# Altium schematic symbol library WR-TBL_Rising Cage Clamp.SchLib: 433 symbols (part 3 of 8)
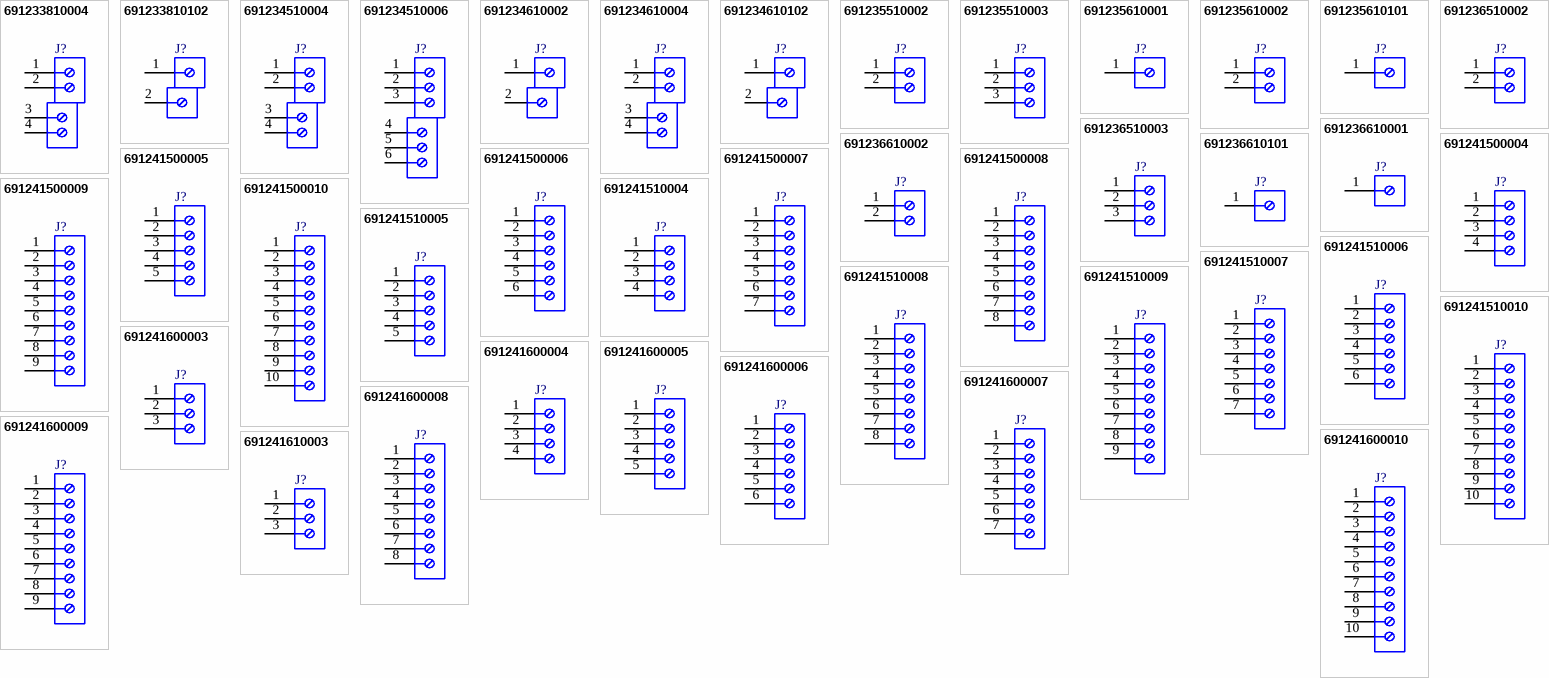
[diagram p12: symbols 691233810004 to 691241610003]

## 691234510006
designator J?  (value not drawn)
WR-TBL Series 2345 Double Level Horizontal Entry, THT, pitch 5.08mm, 06p; Manufacturer: Wurth Elektronik; Modularity: Yes; Rated Current: 20A; Wire Section: 12 to 30 (AWG) 3.31 to 0.05 (mm^2); Working Voltage: 300V (AC); Manufacturer Part Number: 691234510006; Product Series: WR-TBL; ComponentLink1Description: Website Link; ComponentLink1URL: https://www.we-online.com; ComponentLink2Description: Datasheet Link; ComponentLink2URL: https://www.we-online.com/components/products/datasheet/691234510006; Mount: Through Hole; Operating Temperature Min: -30degC; Operating Temperature Max: 120degC; Packaging: Box; Application: Rising Cage Clamp; Number of Pins: 6; Number of Rows: 2; Orientation: Double Level Horizontal; Lead Pitch: 5.08mm
footprint 691234510006
pins: 1, 2, 3, 4, 5, 6

## 691234610002
designator J?  (value not drawn)
WR-TBL Series 2346 Double Level Horizontal Entry, THT, pitch 10.16mm, 02p; Manufacturer: Wurth Elektronik; Modularity: Yes; Rated Current: 20A; Wire Section: 12 to 30 (AWG) 3.31 to 0.05 (mm^2); Working Voltage: 300V (AC); Manufacturer Part Number: 691234610002; Product Series: WR-TBL; ComponentLink1Description: Website Link; ComponentLink1URL: https://www.we-online.com; ComponentLink2Description: Datasheet Link; ComponentLink2URL: https://www.we-online.com/components/products/datasheet/691234610002; Mount: Through Hole; Operating Temperature Min: -30degC; Operating Temperature Max: 120degC; Packaging: Box; Application: Rising Cage Clamp; Number of Pins: 2; Number of Rows: 2; Orientation: Double Level Horizontal; Lead Pitch: 10.16mm
footprint 691234610002
pins: 1, 2

## 691234610004
designator J?  (value not drawn)
WR-TBL Series 2346 Double Level Horizontal Entry, THT, pitch 10.16mm, 04p; Manufacturer: Wurth Elektronik; Modularity: Yes; Rated Current: 20A; Wire Section: 12 to 30 (AWG) 3.31 to 0.05 (mm^2); Working Voltage: 300V (AC); Manufacturer Part Number: 691234610004; Product Series: WR-TBL; ComponentLink1Description: Website Link; ComponentLink1URL: https://www.we-online.com; ComponentLink2Description: Datasheet Link; ComponentLink2URL: https://www.we-online.com/components/products/datasheet/691234610004; Mount: Through Hole; Operating Temperature Min: -30degC; Operating Temperature Max: 120degC; Packaging: Box; Application: Rising Cage Clamp; Number of Pins: 4; Number of Rows: 2; Orientation: Double Level Horizontal; Lead Pitch: 10.16mm
footprint 691234610004
pins: 1, 2, 3, 4

## 691234610102
designator J?  (value not drawn)
WR-TBL Series 2346 Double Level Horizontal Entry, THT, pitch 10.16mm, 02p; Manufacturer: Wurth Elektronik; Modularity: Yes; Rated Current: 20A; Wire Section: 12 to 30 (AWG) 3.31 to 0.05 (mm^2); Working Voltage: 300V (AC); Manufacturer Part Number: 691234610102; Product Series: WR-TBL; ComponentLink1Description: Website Link; ComponentLink1URL: https://www.we-online.com; ComponentLink2Description: Datasheet Link; ComponentLink2URL: https://www.we-online.com/components/products/datasheet/691234610102; Mount: Through Hole; Operating Temperature Min: -30degC; Operating Temperature Max: 120degC; Packaging: Box; Application: Rising Cage Clamp; Number of Pins: 2; Number of Rows: 2; Orientation: Double Level Horizontal; Lead Pitch: 10.16mm
footprint 691234610102
pins: 1, 2

## 691235510002
designator J?  (value not drawn)
WR-TBL Series 2355 Horizontal Entry, THT, pitch 5.08mm, 02p; Manufacturer: Wurth Elektronik; Modularity: Yes; Rated Current: 20A; Wire Section: 12 to 30 (AWG) 3.31 to 0.05 (mm^2); Working Voltage: 300V (AC); Manufacturer Part Number: 691235510002; Product Series: WR-TBL; ComponentLink1Description: Website Link; ComponentLink1URL: https://www.we-online.com; ComponentLink2Description: Datasheet Link; ComponentLink2URL: https://www.we-online.com/components/products/datasheet/691235510002; Mount: Through Hole; Operating Temperature Min: -30degC; Operating Temperature Max: 120degC; Packaging: Box; Application: Rising Cage Clamp; Number of Pins: 2; Number of Rows: 1; Orientation: Horizontal; Lead Pitch: 5.08mm
footprint 691235510002
pins: 1, 2

## 691235510003
designator J?  (value not drawn)
WR-TBL Series 2355 Horizontal Entry, THT, pitch 5.08mm, 03p; Manufacturer: Wurth Elektronik; Modularity: Yes; Rated Current: 20A; Wire Section: 12 to 30 (AWG) 3.31 to 0.05 (mm^2); Working Voltage: 300V (AC); Manufacturer Part Number: 691235510003; Product Series: WR-TBL; ComponentLink1Description: Website Link; ComponentLink1URL: https://www.we-online.com; ComponentLink2Description: Datasheet Link; ComponentLink2URL: https://www.we-online.com/components/products/datasheet/691235510003; Mount: Through Hole; Operating Temperature Min: -30degC; Operating Temperature Max: 120degC; Packaging: Box; Application: Rising Cage Clamp; Number of Pins: 3; Number of Rows: 1; Orientation: Horizontal; Lead Pitch: 5.08mm
footprint 691235510003
pins: 1, 2, 3

## 691235610001
designator J?  (value not drawn)
WR-TBL Series 2356 Horizontal Entry, THT, pitch 10.16mm, 01p; Manufacturer: Wurth Elektronik; Modularity: Yes; Rated Current: 20A; Wire Section: 12 to 30 (AWG) 3.31 to 0.05 (mm^2); Working Voltage: 300V (AC); Manufacturer Part Number: 691235610001; Product Series: WR-TBL; ComponentLink1Description: Website Link; ComponentLink1URL: https://www.we-online.com; ComponentLink2Description: Datasheet Link; ComponentLink2URL: https://www.we-online.com/components/products/datasheet/691235610001; Mount: Through Hole; Operating Temperature Min: -30degC; Operating Temperature Max: 120degC; Packaging: Box; Application: Rising Cage Clamp; Number of Pins: 1; Number of Rows: 1; Orientation: Horizontal; Lead Pitch: 10.16mm
footprint 691235610001
pins: 1

## 691235610002
designator J?  (value not drawn)
WR-TBL Series 2356 Horizontal Entry, THT, pitch 10.16mm, 02p; Manufacturer: Wurth Elektronik; Modularity: Yes; Rated Current: 20A; Wire Section: 12 to 30 (AWG) 3.31 to 0.05 (mm^2); Working Voltage: 300V (AC); Manufacturer Part Number: 691235610002; Product Series: WR-TBL; ComponentLink1Description: Website Link; ComponentLink1URL: https://www.we-online.com; ComponentLink2Description: Datasheet Link; ComponentLink2URL: https://www.we-online.com/components/products/datasheet/691235610002; Mount: Through Hole; Operating Temperature Min: -30degC; Operating Temperature Max: 120degC; Packaging: Box; Application: Rising Cage Clamp; Number of Pins: 2; Number of Rows: 1; Orientation: Horizontal; Lead Pitch: 10.16mm
footprint 691235610002
pins: 1, 2

## 691235610101
designator J?  (value not drawn)
WR-TBL Series 2356 Horizontal Entry, THT, pitch 10.16mm, 01p; Manufacturer: Wurth Elektronik; Modularity: Yes; Rated Current: 20A; Wire Section: 12 to 30 (AWG) 3.31 to 0.05 (mm^2); Working Voltage: 300V (AC); Manufacturer Part Number: 691235610101; Product Series: WR-TBL; ComponentLink1Description: Website Link; ComponentLink1URL: https://www.we-online.com; ComponentLink2Description: Datasheet Link; ComponentLink2URL: https://www.we-online.com/components/products/datasheet/691235610101; Mount: Through Hole; Operating Temperature Min: -30degC; Operating Temperature Max: 120degC; Packaging: Box; Application: Rising Cage Clamp; Number of Pins: 1; Number of Rows: 1; Orientation: Horizontal; Lead Pitch: 10.16mm
footprint 691235610101
pins: 1

## 691236510002
designator J?  (value not drawn)
WR-TBL Series 2365 Horizontal Entry, THT, pitch 5.08mm, 02p; Manufacturer: Wurth Elektronik; Modularity: Yes; Rated Current: 20A; Wire Section: 12 to 30 (AWG) 3.31 to 0.0509 (mm^2); Working Voltage: 300V (AC); Manufacturer Part Number: 691236510002; Product Series: WR-TBL; ComponentLink1Description: Website Link; ComponentLink1URL: https://www.we-online.com; ComponentLink2Description: Datasheet Link; ComponentLink2URL: https://www.we-online.com/components/products/datasheet/691236510002; Mount: Through Hole; Operating Temperature Min: -30degC; Operating Temperature Max: 120degC; Packaging: Box; Application: Rising Cage Clamp; Number of Pins: 2; Number of Rows: 1; Orientation: Horizontal; Lead Pitch: 5.08mm
footprint 691236510002
pins: 1, 2

## 691236510003
designator J?  (value not drawn)
WR-TBL Series 2365 Horizontal Entry, THT, pitch 5.08mm, 03p; Manufacturer: Wurth Elektronik; Modularity: Yes; Rated Current: 20A; Wire Section: 12 to 30 (AWG) 3.31 to 0.0509 (mm^2); Working Voltage: 300V (AC); Manufacturer Part Number: 691236510003; Product Series: WR-TBL; ComponentLink1Description: Website Link; ComponentLink1URL: https://www.we-online.com; ComponentLink2Description: Datasheet Link; ComponentLink2URL: https://www.we-online.com/components/products/datasheet/691236510003; Mount: Through Hole; Operating Temperature Min: -30degC; Operating Temperature Max: 120degC; Packaging: Box; Application: Rising Cage Clamp; Number of Pins: 3; Number of Rows: 1; Orientation: Horizontal; Lead Pitch: 5.08mm
footprint 691236510003
pins: 1, 2, 3

## 691236610001
designator J?  (value not drawn)
WR-TBL Series 2366 Horizontal Entry, THT, pitch 10.16mm, 01p; Manufacturer: Wurth Elektronik; Modularity: Yes; Rated Current: 20A; Wire Section: 12 to 30 (AWG) 3.31 to 0.05 (mm^2); Working Voltage: 300V (AC); Manufacturer Part Number: 691236610001; Product Series: WR-TBL; ComponentLink1Description: Website Link; ComponentLink1URL: https://www.we-online.com; ComponentLink2Description: Datasheet Link; ComponentLink2URL: https://www.we-online.com/components/products/datasheet/691236610001; Mount: Through Hole; Operating Temperature Min: -30degC; Operating Temperature Max: 120degC; Packaging: Box; Application: Rising Cage Clamp; Number of Pins: 1; Number of Rows: 1; Orientation: Horizontal; Lead Pitch: 10.16mm
footprint 691236610001
pins: 1

## 691236610002
designator J?  (value not drawn)
WR-TBL Series 2366 Horizontal Entry, THT, pitch 10.16mm, 02p; Manufacturer: Wurth Elektronik; Modularity: Yes; Rated Current: 20A; Wire Section: 12 to 30 (AWG) 3.31 to 0.05 (mm^2); Working Voltage: 300V (AC); Manufacturer Part Number: 691236610002; Product Series: WR-TBL; ComponentLink1Description: Website Link; ComponentLink1URL: https://www.we-online.com; ComponentLink2Description: Datasheet Link; ComponentLink2URL: https://www.we-online.com/components/products/datasheet/691236610002; Mount: Through Hole; Operating Temperature Min: -30degC; Operating Temperature Max: 120degC; Packaging: Box; Application: Rising Cage Clamp; Number of Pins: 2; Number of Rows: 1; Orientation: Horizontal; Lead Pitch: 10.16mm
footprint 691236610002
pins: 1, 2

## 691236610101
designator J?  (value not drawn)
WR-TBL Series 2366 Horizontal Entry, THT, pitch 10.16mm, 01p; Manufacturer: Wurth Elektronik; Modularity: Yes; Rated Current: 20A; Wire Section: 12 to 30 (AWG) 3.31 to 0.05 (mm^2); Working Voltage: 300V (AC); Manufacturer Part Number: 691236610101; Product Series: WR-TBL; ComponentLink1Description: Website Link; ComponentLink1URL: https://www.we-online.com; ComponentLink2Description: Datasheet Link; ComponentLink2URL: https://www.we-online.com/components/products/datasheet/691236610101; Mount: Through Hole; Operating Temperature Min: -30degC; Operating Temperature Max: 120degC; Packaging: Box; Application: Rising Cage Clamp; Number of Pins: 1; Number of Rows: 1; Orientation: Horizontal; Lead Pitch: 10.16mm
footprint 691236610101
pins: 1

## 691241500004
designator J?  (value not drawn)
WR-TBL Series 2415 Vertical Entry, THT, pitch 5.08mm, 04p; Manufacturer: Wurth Elektronik; Modularity: No; Rated Current: 14A; Wire Section: 14 to 30 (AWG) 2.08 to 0.0509 (mm^2); Working Voltage: 300V (AC); Manufacturer Part Number: 691241500004; Product Series: WR-TBL; ComponentLink1Description: Website Link; ComponentLink1URL: https://www.we-online.com; ComponentLink2Description: Datasheet Link; ComponentLink2URL: https://www.we-online.com/components/products/datasheet/691241500004; Mount: Through Hole; Operating Temperature Min: -30degC; Operating Temperature Max: 120degC; Packaging: Box; Application: Rising Cage Clamp; Number of Pins: 4; Number of Rows: 1; Orientation: Vertical; Lead Pitch: 5.08mm
footprint 691241500004
pins: 1, 2, 3, 4

## 691241500005
designator J?  (value not drawn)
WR-TBL Series 2415 Vertical Entry, THT, pitch 5.08mm, 05p; Manufacturer: Wurth Elektronik; Modularity: No; Rated Current: 14A; Wire Section: 14 to 30 (AWG) 2.08 to 0.0509 (mm^2); Working Voltage: 300V (AC); Manufacturer Part Number: 691241500005; Product Series: WR-TBL; ComponentLink1Description: Website Link; ComponentLink1URL: https://www.we-online.com; ComponentLink2Description: Datasheet Link; ComponentLink2URL: https://www.we-online.com/components/products/datasheet/691241500005; Mount: Through Hole; Operating Temperature Min: -30degC; Operating Temperature Max: 120degC; Packaging: Box; Application: Rising Cage Clamp; Number of Pins: 5; Number of Rows: 1; Orientation: Vertical; Lead Pitch: 5.08mm
footprint 691241500005
pins: 1, 2, 3, 4, 5

## 691241500006
designator J?  (value not drawn)
WR-TBL Series 2415 Vertical Entry, THT, pitch 5.08mm, 06p; Manufacturer: Wurth Elektronik; Modularity: No; Rated Current: 14A; Wire Section: 14 to 30 (AWG) 2.08 to 0.0509 (mm^2); Working Voltage: 300V (AC); Manufacturer Part Number: 691241500006; Product Series: WR-TBL; ComponentLink1Description: Website Link; ComponentLink1URL: https://www.we-online.com; ComponentLink2Description: Datasheet Link; ComponentLink2URL: https://www.we-online.com/components/products/datasheet/691241500006; Mount: Through Hole; Operating Temperature Min: -30degC; Operating Temperature Max: 120degC; Packaging: Box; Application: Rising Cage Clamp; Number of Pins: 6; Number of Rows: 1; Orientation: Vertical; Lead Pitch: 5.08mm
footprint 691241500006
pins: 1, 2, 3, 4, 5, 6

## 691241500007
designator J?  (value not drawn)
WR-TBL Series 2415 Vertical Entry, THT, pitch 5.08mm, 07p; Manufacturer: Wurth Elektronik; Modularity: No; Rated Current: 14A; Wire Section: 14 to 30 (AWG) 2.08 to 0.0509 (mm^2); Working Voltage: 300V (AC); Manufacturer Part Number: 691241500007; Product Series: WR-TBL; ComponentLink1Description: Website Link; ComponentLink1URL: https://www.we-online.com; ComponentLink2Description: Datasheet Link; ComponentLink2URL: https://www.we-online.com/components/products/datasheet/691241500007; Mount: Through Hole; Operating Temperature Min: -30degC; Operating Temperature Max: 120degC; Packaging: Box; Application: Rising Cage Clamp; Number of Pins: 7; Number of Rows: 1; Orientation: Vertical; Lead Pitch: 5.08mm
footprint 691241500007
pins: 1, 2, 3, 4, 5, 6, 7

## 691241500008
designator J?  (value not drawn)
WR-TBL Series 2415 Vertical Entry, THT, pitch 5.08mm, 08p; Manufacturer: Wurth Elektronik; Modularity: No; Rated Current: 14A; Wire Section: 14 to 30 (AWG) 2.08 to 0.0509 (mm^2); Working Voltage: 300V (AC); Manufacturer Part Number: 691241500008; Product Series: WR-TBL; ComponentLink1Description: Website Link; ComponentLink1URL: https://www.we-online.com; ComponentLink2Description: Datasheet Link; ComponentLink2URL: https://www.we-online.com/components/products/datasheet/691241500008; Mount: Through Hole; Operating Temperature Min: -30degC; Operating Temperature Max: 120degC; Packaging: Box; Application: Rising Cage Clamp; Number of Pins: 8; Number of Rows: 1; Orientation: Vertical; Lead Pitch: 5.08mm
footprint 691241500008
pins: 1, 2, 3, 4, 5, 6, 7, 8

## 691241500009
designator J?  (value not drawn)
WR-TBL Series 2415 Vertical Entry, THT, pitch 5.08mm, 09p; Manufacturer: Wurth Elektronik; Modularity: No; Rated Current: 14A; Wire Section: 14 to 30 (AWG) 2.08 to 0.0509 (mm^2); Working Voltage: 300V (AC); Manufacturer Part Number: 691241500009; Product Series: WR-TBL; ComponentLink1Description: Website Link; ComponentLink1URL: https://www.we-online.com; ComponentLink2Description: Datasheet Link; ComponentLink2URL: https://www.we-online.com/components/products/datasheet/691241500009; Mount: Through Hole; Operating Temperature Min: -30degC; Operating Temperature Max: 120degC; Packaging: Box; Application: Rising Cage Clamp; Number of Pins: 9; Number of Rows: 1; Orientation: Vertical; Lead Pitch: 5.08mm
footprint 691241500009
pins: 1, 2, 3, 4, 5, 6, 7, 8, 9

## 691241500010
designator J?  (value not drawn)
WR-TBL Series 2415 Vertical Entry, THT, pitch 5.08mm, 10p; Manufacturer: Wurth Elektronik; Modularity: No; Rated Current: 14A; Wire Section: 14 to 30 (AWG) 2.08 to 0.0509 (mm^2); Working Voltage: 300V (AC); Manufacturer Part Number: 691241500010; Product Series: WR-TBL; ComponentLink1Description: Website Link; ComponentLink1URL: https://www.we-online.com; ComponentLink2Description: Datasheet Link; ComponentLink2URL: https://www.we-online.com/components/products/datasheet/691241500010; Mount: Through Hole; Operating Temperature Min: -30degC; Operating Temperature Max: 120degC; Packaging: Box; Application: Rising Cage Clamp; Number of Pins: 10; Number of Rows: 1; Orientation: Vertical; Lead Pitch: 5.08mm
footprint 691241500010
pins: 1, 2, 3, 4, 5, 6, 7, 8, 9, 10

## 691241510004
designator J?  (value not drawn)
WR-TBL Series 2415 Horizontal Entry Modular, THT, pitch 5.08mm, 04p; Manufacturer: Wurth Elektronik; Modularity: No; Rated Current: 14A; Wire Section: 14 to 30 (AWG) 2.08 to 0.0509 (mm^2); Working Voltage: 300V (AC); Manufacturer Part Number: 691241510004; Product Series: WR-TBL; ComponentLink1Description: Website Link; ComponentLink1URL: https://www.we-online.com; ComponentLink2Description: Datasheet Link; ComponentLink2URL: https://www.we-online.com/components/products/datasheet/691241510004; Mount: Through Hole; Operating Temperature Min: -30degC; Operating Temperature Max: 120degC; Packaging: Box; Application: Rising Cage Clamp; Number of Pins: 4; Number of Rows: 1; Orientation: Horizontal; Lead Pitch: 5.08mm
footprint 691241510004
pins: 1, 2, 3, 4

## 691241510005
designator J?  (value not drawn)
WR-TBL Series 2415 Horizontal Entry Modular, THT, pitch 5.08mm, 05p; Manufacturer: Wurth Elektronik; Modularity: No; Rated Current: 14A; Wire Section: 14 to 30 (AWG) 2.08 to 0.0509 (mm^2); Working Voltage: 300V (AC); Manufacturer Part Number: 691241510005; Product Series: WR-TBL; ComponentLink1Description: Website Link; ComponentLink1URL: https://www.we-online.com; ComponentLink2Description: Datasheet Link; ComponentLink2URL: https://www.we-online.com/components/products/datasheet/691241510005; Mount: Through Hole; Operating Temperature Min: -30degC; Operating Temperature Max: 120degC; Packaging: Box; Application: Rising Cage Clamp; Number of Pins: 5; Number of Rows: 1; Orientation: Horizontal; Lead Pitch: 5.08mm
footprint 691241510005
pins: 1, 2, 3, 4, 5

## 691241510006
designator J?  (value not drawn)
WR-TBL Series 2415 Horizontal Entry Modular, THT, pitch 5.08mm, 06p; Manufacturer: Wurth Elektronik; Modularity: No; Rated Current: 14A; Wire Section: 14 to 30 (AWG) 2.08 to 0.0509 (mm^2); Working Voltage: 300V (AC); Manufacturer Part Number: 691241510006; Product Series: WR-TBL; ComponentLink1Description: Website Link; ComponentLink1URL: https://www.we-online.com; ComponentLink2Description: Datasheet Link; ComponentLink2URL: https://www.we-online.com/components/products/datasheet/691241510006; Mount: Through Hole; Operating Temperature Min: -30degC; Operating Temperature Max: 120degC; Packaging: Box; Application: Rising Cage Clamp; Number of Pins: 6; Number of Rows: 1; Orientation: Horizontal; Lead Pitch: 5.08mm
footprint 691241510006
pins: 1, 2, 3, 4, 5, 6

## 691241510007
designator J?  (value not drawn)
WR-TBL Series 2415 Horizontal Entry Modular, THT, pitch 5.08mm, 07p; Manufacturer: Wurth Elektronik; Modularity: No; Rated Current: 14A; Wire Section: 14 to 30 (AWG) 2.08 to 0.0509 (mm^2); Working Voltage: 300V (AC); Manufacturer Part Number: 691241510007; Product Series: WR-TBL; ComponentLink1Description: Website Link; ComponentLink1URL: https://www.we-online.com; ComponentLink2Description: Datasheet Link; ComponentLink2URL: https://www.we-online.com/components/products/datasheet/691241510007; Mount: Through Hole; Operating Temperature Min: -30degC; Operating Temperature Max: 120degC; Packaging: Box; Application: Rising Cage Clamp; Number of Pins: 7; Number of Rows: 1; Orientation: Horizontal; Lead Pitch: 5.08mm
footprint 691241510007
pins: 1, 2, 3, 4, 5, 6, 7

## 691241510008
designator J?  (value not drawn)
WR-TBL Series 2415 Horizontal Entry Modular, THT, pitch 5.08mm, 08p; Manufacturer: Wurth Elektronik; Modularity: No; Rated Current: 14A; Wire Section: 14 to 30 (AWG) 2.08 to 0.0509 (mm^2); Working Voltage: 300V (AC); Manufacturer Part Number: 691241510008; Product Series: WR-TBL; ComponentLink1Description: Website Link; ComponentLink1URL: https://www.we-online.com; ComponentLink2Description: Datasheet Link; ComponentLink2URL: https://www.we-online.com/components/products/datasheet/691241510008; Mount: Through Hole; Operating Temperature Min: -30degC; Operating Temperature Max: 120degC; Packaging: Box; Application: Rising Cage Clamp; Number of Pins: 8; Number of Rows: 1; Orientation: Horizontal; Lead Pitch: 5.08mm
footprint 691241510008
pins: 1, 2, 3, 4, 5, 6, 7, 8

## 691241510009
designator J?  (value not drawn)
WR-TBL Series 2415 Horizontal Entry Modular, THT, pitch 5.08mm, 09p; Manufacturer: Wurth Elektronik; Modularity: No; Rated Current: 14A; Wire Section: 14 to 30 (AWG) 2.08 to 0.0509 (mm^2); Working Voltage: 300V (AC); Manufacturer Part Number: 691241510009; Product Series: WR-TBL; ComponentLink1Description: Website Link; ComponentLink1URL: https://www.we-online.com; ComponentLink2Description: Datasheet Link; ComponentLink2URL: https://www.we-online.com/components/products/datasheet/691241510009; Mount: Through Hole; Operating Temperature Min: -30degC; Operating Temperature Max: 120degC; Packaging: Box; Application: Rising Cage Clamp; Number of Pins: 9; Number of Rows: 1; Orientation: Horizontal; Lead Pitch: 5.08mm
footprint 691241510009
pins: 1, 2, 3, 4, 5, 6, 7, 8, 9

## 691241510010
designator J?  (value not drawn)
WR-TBL Series 2415 Horizontal Entry Modular, THT, pitch 5.08mm, 10p; Manufacturer: Wurth Elektronik; Modularity: No; Rated Current: 14A; Wire Section: 14 to 30 (AWG) 2.08 to 0.0509 (mm^2); Working Voltage: 300V (AC); Manufacturer Part Number: 691241510010; Product Series: WR-TBL; ComponentLink1Description: Website Link; ComponentLink1URL: https://www.we-online.com; ComponentLink2Description: Datasheet Link; ComponentLink2URL: https://www.we-online.com/components/products/datasheet/691241510010; Mount: Through Hole; Operating Temperature Min: -30degC; Operating Temperature Max: 120degC; Packaging: Box; Application: Rising Cage Clamp; Number of Pins: 10; Number of Rows: 1; Orientation: Horizontal; Lead Pitch: 5.08mm
footprint 691241510010
pins: 1, 2, 3, 4, 5, 6, 7, 8, 9, 10

## 691241600003
designator J?  (value not drawn)
WR-TBL Series 2416 Vertical Entry, THT, pitch 10.16mm, 03p; Manufacturer: Wurth Elektronik; Modularity: No; Rated Current: 14A; Wire Section: 14 to 30 (AWG) 2.08 to 0.0509 (mm^2); Working Voltage: 300V (AC); Manufacturer Part Number: 691241600003; Product Series: WR-TBL; ComponentLink1Description: Website Link; ComponentLink1URL: https://www.we-online.com; ComponentLink2Description: Datasheet Link; ComponentLink2URL: https://www.we-online.com/components/products/datasheet/691241600003; Mount: Through Hole; Operating Temperature Min: -30degC; Operating Temperature Max: 120degC; Packaging: Box; Application: Rising Cage Clamp; Number of Pins: 3; Number of Rows: 1; Orientation: Vertical; Lead Pitch: 10.16mm
footprint 691241600003
pins: 1, 2, 3

## 691241600004
designator J?  (value not drawn)
WR-TBL Series 2416 Vertical Entry, THT, pitch 10.16mm, 04p; Manufacturer: Wurth Elektronik; Modularity: No; Rated Current: 14A; Wire Section: 14 to 30 (AWG) 2.08 to 0.0509 (mm^2); Working Voltage: 300V (AC); Manufacturer Part Number: 691241600004; Product Series: WR-TBL; ComponentLink1Description: Website Link; ComponentLink1URL: https://www.we-online.com; ComponentLink2Description: Datasheet Link; ComponentLink2URL: https://www.we-online.com/components/products/datasheet/691241600004; Mount: Through Hole; Operating Temperature Min: -30degC; Operating Temperature Max: 120degC; Packaging: Box; Application: Rising Cage Clamp; Number of Pins: 4; Number of Rows: 1; Orientation: Vertical; Lead Pitch: 10.16mm
footprint 691241600004
pins: 1, 2, 3, 4

## 691241600005
designator J?  (value not drawn)
WR-TBL Series 2416 Vertical Entry, THT, pitch 10.16mm, 05p; Manufacturer: Wurth Elektronik; Modularity: No; Rated Current: 14A; Wire Section: 14 to 30 (AWG) 2.08 to 0.0509 (mm^2); Working Voltage: 300V (AC); Manufacturer Part Number: 691241600005; Product Series: WR-TBL; ComponentLink1Description: Website Link; ComponentLink1URL: https://www.we-online.com; ComponentLink2Description: Datasheet Link; ComponentLink2URL: https://www.we-online.com/components/products/datasheet/691241600005; Mount: Through Hole; Operating Temperature Min: -30degC; Operating Temperature Max: 120degC; Packaging: Box; Application: Rising Cage Clamp; Number of Pins: 5; Number of Rows: 1; Orientation: Vertical; Lead Pitch: 10.16mm
footprint 691241600005
pins: 1, 2, 3, 4, 5

## 691241600006
designator J?  (value not drawn)
WR-TBL Series 2416 Vertical Entry, THT, pitch 10.16mm, 06p; Manufacturer: Wurth Elektronik; Modularity: No; Rated Current: 14A; Wire Section: 14 to 30 (AWG) 2.08 to 0.0509 (mm^2); Working Voltage: 300V (AC); Manufacturer Part Number: 691241600006; Product Series: WR-TBL; ComponentLink1Description: Website Link; ComponentLink1URL: https://www.we-online.com; ComponentLink2Description: Datasheet Link; ComponentLink2URL: https://www.we-online.com/components/products/datasheet/691241600006; Mount: Through Hole; Operating Temperature Min: -30degC; Operating Temperature Max: 120degC; Packaging: Box; Application: Rising Cage Clamp; Number of Pins: 6; Number of Rows: 1; Orientation: Vertical; Lead Pitch: 10.16mm
footprint 691241600006
pins: 1, 2, 3, 4, 5, 6

## 691241600007
designator J?  (value not drawn)
WR-TBL Series 2416 Vertical Entry, THT, pitch 10.16mm, 07p; Manufacturer: Wurth Elektronik; Modularity: No; Rated Current: 14A; Wire Section: 14 to 30 (AWG) 2.08 to 0.0509 (mm^2); Working Voltage: 300V (AC); Manufacturer Part Number: 691241600007; Product Series: WR-TBL; ComponentLink1Description: Website Link; ComponentLink1URL: https://www.we-online.com; ComponentLink2Description: Datasheet Link; ComponentLink2URL: https://www.we-online.com/components/products/datasheet/691241600007; Mount: Through Hole; Operating Temperature Min: -30degC; Operating Temperature Max: 120degC; Packaging: Box; Application: Rising Cage Clamp; Number of Pins: 7; Number of Rows: 1; Orientation: Vertical; Lead Pitch: 10.16mm
footprint 691241600007
pins: 1, 2, 3, 4, 5, 6, 7

## 691241600008
designator J?  (value not drawn)
WR-TBL Series 2416 Vertical Entry, THT, pitch 10.16mm, 08p; Manufacturer: Wurth Elektronik; Modularity: No; Rated Current: 14A; Wire Section: 14 to 30 (AWG) 2.08 to 0.0509 (mm^2); Working Voltage: 300V (AC); Manufacturer Part Number: 691241600008; Product Series: WR-TBL; ComponentLink1Description: Website Link; ComponentLink1URL: https://www.we-online.com; ComponentLink2Description: Datasheet Link; ComponentLink2URL: https://www.we-online.com/components/products/datasheet/691241600008; Mount: Through Hole; Operating Temperature Min: -30degC; Operating Temperature Max: 120degC; Packaging: Box; Application: Rising Cage Clamp; Number of Pins: 8; Number of Rows: 1; Orientation: Vertical; Lead Pitch: 10.16mm
footprint 691241600008
pins: 1, 2, 3, 4, 5, 6, 7, 8

## 691241600009
designator J?  (value not drawn)
WR-TBL Series 2416 Vertical Entry, THT, pitch 10.16mm, 09p; Manufacturer: Wurth Elektronik; Modularity: No; Rated Current: 14A; Wire Section: 14 to 30 (AWG) 2.08 to 0.0509 (mm^2); Working Voltage: 300V (AC); Manufacturer Part Number: 691241600009; Product Series: WR-TBL; ComponentLink1Description: Website Link; ComponentLink1URL: https://www.we-online.com; ComponentLink2Description: Datasheet Link; ComponentLink2URL: https://www.we-online.com/components/products/datasheet/691241600009; Mount: Through Hole; Operating Temperature Min: -30degC; Operating Temperature Max: 120degC; Packaging: Box; Application: Rising Cage Clamp; Number of Pins: 9; Number of Rows: 1; Orientation: Vertical; Lead Pitch: 10.16mm
footprint 691241600009
pins: 1, 2, 3, 4, 5, 6, 7, 8, 9

## 691241600010
designator J?  (value not drawn)
WR-TBL Series 2416 Vertical Entry, THT, pitch 10.16mm, 10p; Manufacturer: Wurth Elektronik; Modularity: No; Rated Current: 14A; Wire Section: 14 to 30 (AWG) 2.08 to 0.0509 (mm^2); Working Voltage: 300V (AC); Manufacturer Part Number: 691241600010; Product Series: WR-TBL; ComponentLink1Description: Website Link; ComponentLink1URL: https://www.we-online.com; ComponentLink2Description: Datasheet Link; ComponentLink2URL: https://www.we-online.com/components/products/datasheet/691241600010; Mount: Through Hole; Operating Temperature Min: -30degC; Operating Temperature Max: 120degC; Packaging: Box; Application: Rising Cage Clamp; Number of Pins: 10; Number of Rows: 1; Orientation: Vertical; Lead Pitch: 10.16mm
footprint 691241600010
pins: 1, 2, 3, 4, 5, 6, 7, 8, 9, 10

## 691241610003
designator J?  (value not drawn)
WR-TBL Series 2416 Horizontal Entry, THT, pitch 10.16mm, 03p; Manufacturer: Wurth Elektronik; Modularity: No; Rated Current: 14A; Wire Section: 14 to 30 (AWG) 2.08 to 0.0509 (mm^2); Working Voltage: 300V (AC); Manufacturer Part Number: 691241610003; Product Series: WR-TBL; ComponentLink1Description: Website Link; ComponentLink1URL: https://www.we-online.com; ComponentLink2Description: Datasheet Link; ComponentLink2URL: https://www.we-online.com/components/products/datasheet/691241610003; Mount: Through Hole; Operating Temperature Min: -30degC; Operating Temperature Max: 120degC; Packaging: Box; Application: Rising Cage Clamp; Number of Pins: 3; Number of Rows: 1; Orientation: Horizontal; Lead Pitch: 10.16mm
footprint 691241610003
pins: 1, 2, 3

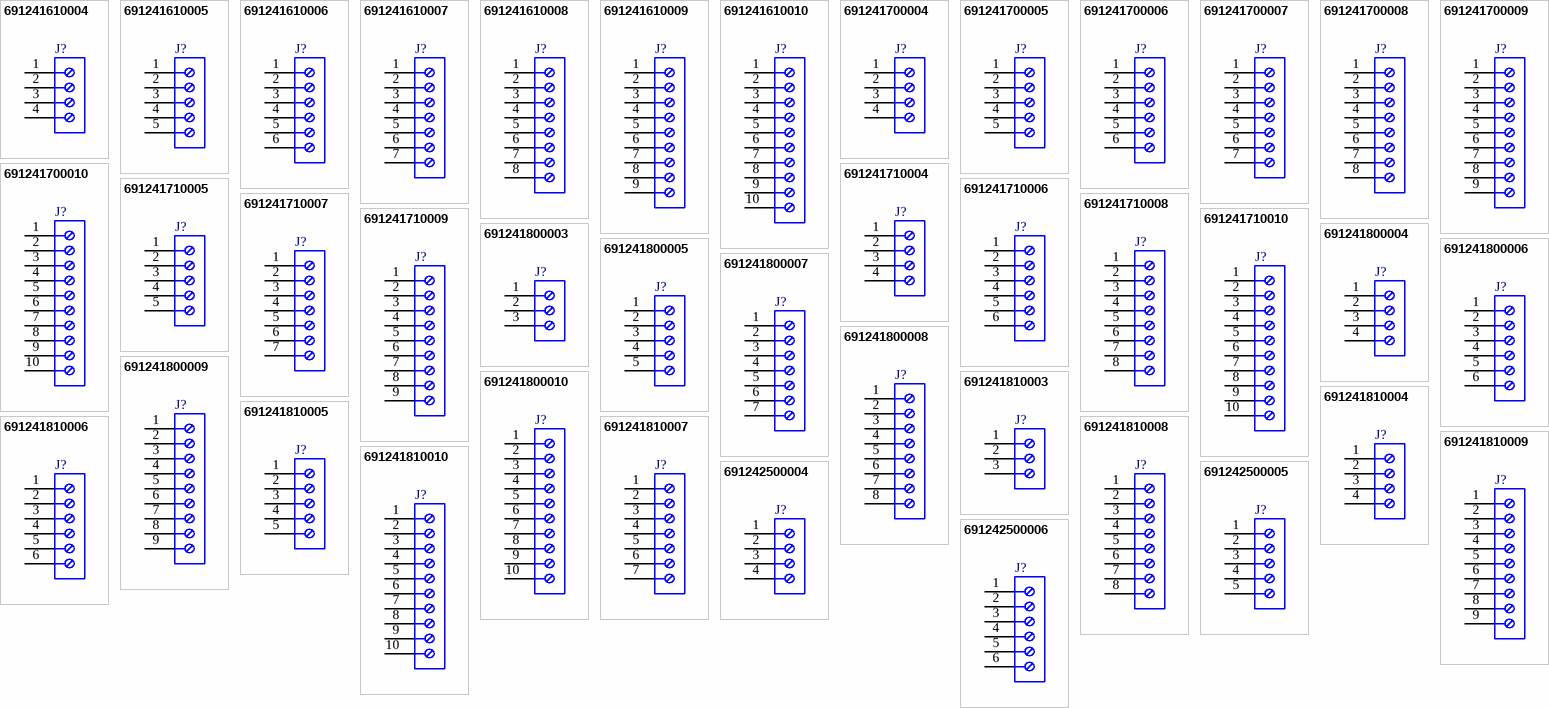
[diagram p4: symbols 691241610004 to 691242500006]

## 691241610004
designator J?  (value not drawn)
WR-TBL Series 2416 Horizontal Entry, THT, pitch 10.16mm, 04p; Manufacturer: Wurth Elektronik; Modularity: No; Rated Current: 14A; Wire Section: 14 to 30 (AWG) 2.08 to 0.0509 (mm^2); Working Voltage: 300V (AC); Manufacturer Part Number: 691241610004; Product Series: WR-TBL; ComponentLink1Description: Website Link; ComponentLink1URL: https://www.we-online.com; ComponentLink2Description: Datasheet Link; ComponentLink2URL: https://www.we-online.com/components/products/datasheet/691241610004; Mount: Through Hole; Operating Temperature Min: -30degC; Operating Temperature Max: 120degC; Packaging: Box; Application: Rising Cage Clamp; Number of Pins: 4; Number of Rows: 1; Orientation: Horizontal; Lead Pitch: 10.16mm
footprint 691241610004
pins: 1, 2, 3, 4

## 691241610005
designator J?  (value not drawn)
WR-TBL Series 2416 Horizontal Entry, THT, pitch 10.16mm, 05p; Manufacturer: Wurth Elektronik; Modularity: No; Rated Current: 14A; Wire Section: 14 to 30 (AWG) 2.08 to 0.0509 (mm^2); Working Voltage: 300V (AC); Manufacturer Part Number: 691241610005; Product Series: WR-TBL; ComponentLink1Description: Website Link; ComponentLink1URL: https://www.we-online.com; ComponentLink2Description: Datasheet Link; ComponentLink2URL: https://www.we-online.com/components/products/datasheet/691241610005; Mount: Through Hole; Operating Temperature Min: -30degC; Operating Temperature Max: 120degC; Packaging: Box; Application: Rising Cage Clamp; Number of Pins: 5; Number of Rows: 1; Orientation: Horizontal; Lead Pitch: 10.16mm
footprint 691241610005
pins: 1, 2, 3, 4, 5

## 691241610006
designator J?  (value not drawn)
WR-TBL Series 2416 Horizontal Entry, THT, pitch 10.16mm, 06p; Manufacturer: Wurth Elektronik; Modularity: No; Rated Current: 14A; Wire Section: 14 to 30 (AWG) 2.08 to 0.0509 (mm^2); Working Voltage: 300V (AC); Manufacturer Part Number: 691241610006; Product Series: WR-TBL; ComponentLink1Description: Website Link; ComponentLink1URL: https://www.we-online.com; ComponentLink2Description: Datasheet Link; ComponentLink2URL: https://www.we-online.com/components/products/datasheet/691241610006; Mount: Through Hole; Operating Temperature Min: -30degC; Operating Temperature Max: 120degC; Packaging: Box; Application: Rising Cage Clamp; Number of Pins: 6; Number of Rows: 1; Orientation: Horizontal; Lead Pitch: 10.16mm
footprint 691241610006
pins: 1, 2, 3, 4, 5, 6

## 691241610007
designator J?  (value not drawn)
WR-TBL Series 2416 Horizontal Entry, THT, pitch 10.16mm, 07p; Manufacturer: Wurth Elektronik; Modularity: No; Rated Current: 14A; Wire Section: 14 to 30 (AWG) 2.08 to 0.0509 (mm^2); Working Voltage: 300V (AC); Manufacturer Part Number: 691241610007; Product Series: WR-TBL; ComponentLink1Description: Website Link; ComponentLink1URL: https://www.we-online.com; ComponentLink2Description: Datasheet Link; ComponentLink2URL: https://www.we-online.com/components/products/datasheet/691241610007; Mount: Through Hole; Operating Temperature Min: -30degC; Operating Temperature Max: 120degC; Packaging: Box; Application: Rising Cage Clamp; Number of Pins: 7; Number of Rows: 1; Orientation: Horizontal; Lead Pitch: 10.16mm
footprint 691241610007
pins: 1, 2, 3, 4, 5, 6, 7

## 691241610008
designator J?  (value not drawn)
WR-TBL Series 2416 Horizontal Entry, THT, pitch 10.16mm, 08p; Manufacturer: Wurth Elektronik; Modularity: No; Rated Current: 14A; Wire Section: 14 to 30 (AWG) 2.08 to 0.0509 (mm^2); Working Voltage: 300V (AC); Manufacturer Part Number: 691241610008; Product Series: WR-TBL; ComponentLink1Description: Website Link; ComponentLink1URL: https://www.we-online.com; ComponentLink2Description: Datasheet Link; ComponentLink2URL: https://www.we-online.com/components/products/datasheet/691241610008; Mount: Through Hole; Operating Temperature Min: -30degC; Operating Temperature Max: 120degC; Packaging: Box; Application: Rising Cage Clamp; Number of Pins: 8; Number of Rows: 1; Orientation: Horizontal; Lead Pitch: 10.16mm
footprint 691241610008
pins: 1, 2, 3, 4, 5, 6, 7, 8

## 691241610009
designator J?  (value not drawn)
WR-TBL Series 2416 Horizontal Entry, THT, pitch 10.16mm, 09p; Manufacturer: Wurth Elektronik; Modularity: No; Rated Current: 14A; Wire Section: 14 to 30 (AWG) 2.08 to 0.0509 (mm^2); Working Voltage: 300V (AC); Manufacturer Part Number: 691241610009; Product Series: WR-TBL; ComponentLink1Description: Website Link; ComponentLink1URL: https://www.we-online.com; ComponentLink2Description: Datasheet Link; ComponentLink2URL: https://www.we-online.com/components/products/datasheet/691241610009; Mount: Through Hole; Operating Temperature Min: -30degC; Operating Temperature Max: 120degC; Packaging: Box; Application: Rising Cage Clamp; Number of Pins: 9; Number of Rows: 1; Orientation: Horizontal; Lead Pitch: 10.16mm
footprint 691241610009
pins: 1, 2, 3, 4, 5, 6, 7, 8, 9

## 691241610010
designator J?  (value not drawn)
WR-TBL Series 2416 Horizontal Entry, THT, pitch 10.16mm, 10p; Manufacturer: Wurth Elektronik; Modularity: No; Rated Current: 14A; Wire Section: 14 to 30 (AWG) 2.08 to 0.0509 (mm^2); Working Voltage: 300V (AC); Manufacturer Part Number: 691241610010; Product Series: WR-TBL; ComponentLink1Description: Website Link; ComponentLink1URL: https://www.we-online.com; ComponentLink2Description: Datasheet Link; ComponentLink2URL: https://www.we-online.com/components/products/datasheet/691241610010; Mount: Through Hole; Operating Temperature Min: -30degC; Operating Temperature Max: 120degC; Packaging: Box; Application: Rising Cage Clamp; Number of Pins: 10; Number of Rows: 1; Orientation: Horizontal; Lead Pitch: 10.16mm
footprint 691241610010
pins: 1, 2, 3, 4, 5, 6, 7, 8, 9, 10

## 691241700004
designator J?  (value not drawn)
WR-TBL Series 2417 Vertical Entry, THT, pitch 5mm, 04p; Manufacturer: Wurth Elektronik; Modularity: No; Rated Current: 14A; Wire Section: 30 to 14 (AWG) 0.0509 to 2.08 (mm^2); Working Voltage: 300V (AC); Manufacturer Part Number: 691241700004; Product Series: WR-TBL; ComponentLink1Description: Website Link; ComponentLink1URL: https://www.we-online.com; ComponentLink2Description: Datasheet Link; ComponentLink2URL: https://www.we-online.com/components/products/datasheet/691241700004; Mount: Through Hole; Operating Temperature Min: -30degC; Operating Temperature Max: 120degC; Packaging: Box; Application: Rising Cage Clamp; Number of Pins: 4; Number of Rows: 1; Orientation: Vertical; Lead Pitch: 5mm
footprint 691241700004
pins: 1, 2, 3, 4

## 691241700005
designator J?  (value not drawn)
WR-TBL Series 2417 Vertical Entry, THT, pitch 5mm, 05p; Manufacturer: Wurth Elektronik; Modularity: No; Rated Current: 14A; Wire Section: 30 to 14 (AWG) 0.0509 to 2.08 (mm^2); Working Voltage: 300V (AC); Manufacturer Part Number: 691241700005; Product Series: WR-TBL; ComponentLink1Description: Website Link; ComponentLink1URL: https://www.we-online.com; ComponentLink2Description: Datasheet Link; ComponentLink2URL: https://www.we-online.com/components/products/datasheet/691241700005; Mount: Through Hole; Operating Temperature Min: -30degC; Operating Temperature Max: 120degC; Packaging: Box; Application: Rising Cage Clamp; Number of Pins: 5; Number of Rows: 1; Orientation: Vertical; Lead Pitch: 5mm
footprint 691241700005
pins: 1, 2, 3, 4, 5

## 691241700006
designator J?  (value not drawn)
WR-TBL Series 2417 Vertical Entry, THT, pitch 5mm, 06p; Manufacturer: Wurth Elektronik; Modularity: No; Rated Current: 14A; Wire Section: 30 to 14 (AWG) 0.0509 to 2.08 (mm^2); Working Voltage: 300V (AC); Manufacturer Part Number: 691241700006; Product Series: WR-TBL; ComponentLink1Description: Website Link; ComponentLink1URL: https://www.we-online.com; ComponentLink2Description: Datasheet Link; ComponentLink2URL: https://www.we-online.com/components/products/datasheet/691241700006; Mount: Through Hole; Operating Temperature Min: -30degC; Operating Temperature Max: 120degC; Packaging: Box; Application: Rising Cage Clamp; Number of Pins: 6; Number of Rows: 1; Orientation: Vertical; Lead Pitch: 5mm
footprint 691241700006
pins: 1, 2, 3, 4, 5, 6

## 691241700007
designator J?  (value not drawn)
WR-TBL Series 2417 Vertical Entry, THT, pitch 5mm, 07p; Manufacturer: Wurth Elektronik; Modularity: No; Rated Current: 14A; Wire Section: 30 to 14 (AWG) 0.0509 to 2.08 (mm^2); Working Voltage: 300V (AC); Manufacturer Part Number: 691241700007; Product Series: WR-TBL; ComponentLink1Description: Website Link; ComponentLink1URL: https://www.we-online.com; ComponentLink2Description: Datasheet Link; ComponentLink2URL: https://www.we-online.com/components/products/datasheet/691241700007; Mount: Through Hole; Operating Temperature Min: -30degC; Operating Temperature Max: 120degC; Packaging: Box; Application: Rising Cage Clamp; Number of Pins: 7; Number of Rows: 1; Orientation: Vertical; Lead Pitch: 5mm
footprint 691241700007
pins: 1, 2, 3, 4, 5, 6, 7

## 691241700008
designator J?  (value not drawn)
WR-TBL Series 2417 Vertical Entry, THT, pitch 5mm, 08p; Manufacturer: Wurth Elektronik; Modularity: No; Rated Current: 14A; Wire Section: 30 to 14 (AWG) 0.0509 to 2.08 (mm^2); Working Voltage: 300V (AC); Manufacturer Part Number: 691241700008; Product Series: WR-TBL; ComponentLink1Description: Website Link; ComponentLink1URL: https://www.we-online.com; ComponentLink2Description: Datasheet Link; ComponentLink2URL: https://www.we-online.com/components/products/datasheet/691241700008; Mount: Through Hole; Operating Temperature Min: -30degC; Operating Temperature Max: 120degC; Packaging: Box; Application: Rising Cage Clamp; Number of Pins: 8; Number of Rows: 1; Orientation: Vertical; Lead Pitch: 5mm
footprint 691241700008
pins: 1, 2, 3, 4, 5, 6, 7, 8

## 691241700009
designator J?  (value not drawn)
WR-TBL Series 2417 Vertical Entry, THT, pitch 5mm, 09p; Manufacturer: Wurth Elektronik; Modularity: No; Rated Current: 14A; Wire Section: 30 to 14 (AWG) 0.0509 to 2.08 (mm^2); Working Voltage: 300V (AC); Manufacturer Part Number: 691241700009; Product Series: WR-TBL; ComponentLink1Description: Website Link; ComponentLink1URL: https://www.we-online.com; ComponentLink2Description: Datasheet Link; ComponentLink2URL: https://www.we-online.com/components/products/datasheet/691241700009; Mount: Through Hole; Operating Temperature Min: -30degC; Operating Temperature Max: 120degC; Packaging: Box; Application: Rising Cage Clamp; Number of Pins: 9; Number of Rows: 1; Orientation: Vertical; Lead Pitch: 5mm
footprint 691241700009
pins: 1, 2, 3, 4, 5, 6, 7, 8, 9

## 691241700010
designator J?  (value not drawn)
WR-TBL Series 2417 Vertical Entry, THT, pitch 5mm, 10p; Manufacturer: Wurth Elektronik; Modularity: No; Rated Current: 14A; Wire Section: 30 to 14 (AWG) 0.0509 to 2.08 (mm^2); Working Voltage: 300V (AC); Manufacturer Part Number: 691241700010; Product Series: WR-TBL; ComponentLink1Description: Website Link; ComponentLink1URL: https://www.we-online.com; ComponentLink2Description: Datasheet Link; ComponentLink2URL: https://www.we-online.com/components/products/datasheet/691241700010; Mount: Through Hole; Operating Temperature Min: -30degC; Operating Temperature Max: 120degC; Packaging: Box; Application: Rising Cage Clamp; Number of Pins: 10; Number of Rows: 1; Orientation: Vertical; Lead Pitch: 5mm
footprint 691241700010
pins: 1, 2, 3, 4, 5, 6, 7, 8, 9, 10

## 691241710004
designator J?  (value not drawn)
WR-TBL Series 2417 Horizontal Entry Modular, THT, pitch 5mm, 04p; Manufacturer: Wurth Elektronik; Modularity: No; Rated Current: 14A; Wire Section: 30 to 14 (AWG) 0.0509 to 2.08 (mm^2); Working Voltage: 300V (AC); Manufacturer Part Number: 691241710004; Product Series: WR-TBL; ComponentLink1Description: Website Link; ComponentLink1URL: https://www.we-online.com; ComponentLink2Description: Datasheet Link; ComponentLink2URL: https://www.we-online.com/components/products/datasheet/691241710004; Mount: Through Hole; Operating Temperature Min: -30degC; Operating Temperature Max: 120degC; Packaging: Box; Application: Rising Cage Clamp; Number of Pins: 4; Number of Rows: 1; Orientation: Horizontal; Lead Pitch: 5mm
footprint 691241710004
pins: 1, 2, 3, 4

## 691241710005
designator J?  (value not drawn)
WR-TBL Series 2417 Horizontal Entry Modular, THT, pitch 5mm, 05p; Manufacturer: Wurth Elektronik; Modularity: No; Rated Current: 14A; Wire Section: 30 to 14 (AWG) 0.0509 to 2.08 (mm^2); Working Voltage: 300V (AC); Manufacturer Part Number: 691241710005; Product Series: WR-TBL; ComponentLink1Description: Website Link; ComponentLink1URL: https://www.we-online.com; ComponentLink2Description: Datasheet Link; ComponentLink2URL: https://www.we-online.com/components/products/datasheet/691241710005; Mount: Through Hole; Operating Temperature Min: -30degC; Operating Temperature Max: 120degC; Packaging: Box; Application: Rising Cage Clamp; Number of Pins: 5; Number of Rows: 1; Orientation: Horizontal; Lead Pitch: 5mm
footprint 691241710005
pins: 1, 2, 3, 4, 5

## 691241710006
designator J?  (value not drawn)
WR-TBL Series 2417 Horizontal Entry Modular, THT, pitch 5mm, 06p; Manufacturer: Wurth Elektronik; Modularity: No; Rated Current: 14A; Wire Section: 30 to 14 (AWG) 0.0509 to 2.08 (mm^2); Working Voltage: 300V (AC); Manufacturer Part Number: 691241710006; Product Series: WR-TBL; ComponentLink1Description: Website Link; ComponentLink1URL: https://www.we-online.com; ComponentLink2Description: Datasheet Link; ComponentLink2URL: https://www.we-online.com/components/products/datasheet/691241710006; Mount: Through Hole; Operating Temperature Min: -30degC; Operating Temperature Max: 120degC; Packaging: Box; Application: Rising Cage Clamp; Number of Pins: 6; Number of Rows: 1; Orientation: Horizontal; Lead Pitch: 5mm
footprint 691241710006
pins: 1, 2, 3, 4, 5, 6

## 691241710007
designator J?  (value not drawn)
WR-TBL Series 2417 Horizontal Entry Modular, THT, pitch 5mm, 07p; Manufacturer: Wurth Elektronik; Modularity: No; Rated Current: 14A; Wire Section: 30 to 14 (AWG) 0.0509 to 2.08 (mm^2); Working Voltage: 300V (AC); Manufacturer Part Number: 691241710007; Product Series: WR-TBL; ComponentLink1Description: Website Link; ComponentLink1URL: https://www.we-online.com; ComponentLink2Description: Datasheet Link; ComponentLink2URL: https://www.we-online.com/components/products/datasheet/691241710007; Mount: Through Hole; Operating Temperature Min: -30degC; Operating Temperature Max: 120degC; Packaging: Box; Application: Rising Cage Clamp; Number of Pins: 7; Number of Rows: 1; Orientation: Horizontal; Lead Pitch: 5mm
footprint 691241710007
pins: 1, 2, 3, 4, 5, 6, 7

## 691241710008
designator J?  (value not drawn)
WR-TBL Series 2417 Horizontal Entry Modular, THT, pitch 5mm, 08p; Manufacturer: Wurth Elektronik; Modularity: No; Rated Current: 14A; Wire Section: 30 to 14 (AWG) 0.0509 to 2.08 (mm^2); Working Voltage: 300V (AC); Manufacturer Part Number: 691241710008; Product Series: WR-TBL; ComponentLink1Description: Website Link; ComponentLink1URL: https://www.we-online.com; ComponentLink2Description: Datasheet Link; ComponentLink2URL: https://www.we-online.com/components/products/datasheet/691241710008; Mount: Through Hole; Operating Temperature Min: -30degC; Operating Temperature Max: 120degC; Packaging: Box; Application: Rising Cage Clamp; Number of Pins: 8; Number of Rows: 1; Orientation: Horizontal; Lead Pitch: 5mm
footprint 691241710008
pins: 1, 2, 3, 4, 5, 6, 7, 8

## 691241710009
designator J?  (value not drawn)
WR-TBL Series 2417 Horizontal Entry Modular, THT, pitch 5mm, 09p; Manufacturer: Wurth Elektronik; Modularity: No; Rated Current: 14A; Wire Section: 30 to 14 (AWG) 0.0509 to 2.08 (mm^2); Working Voltage: 300V (AC); Manufacturer Part Number: 691241710009; Product Series: WR-TBL; ComponentLink1Description: Website Link; ComponentLink1URL: https://www.we-online.com; ComponentLink2Description: Datasheet Link; ComponentLink2URL: https://www.we-online.com/components/products/datasheet/691241710009; Mount: Through Hole; Operating Temperature Min: -30degC; Operating Temperature Max: 120degC; Packaging: Box; Application: Rising Cage Clamp; Number of Pins: 9; Number of Rows: 1; Orientation: Horizontal; Lead Pitch: 5mm
footprint 691241710009
pins: 1, 2, 3, 4, 5, 6, 7, 8, 9

## 691241710010
designator J?  (value not drawn)
WR-TBL Series 2417 Horizontal Entry Modular, THT, pitch 5mm, 10p; Manufacturer: Wurth Elektronik; Modularity: No; Rated Current: 14A; Wire Section: 30 to 14 (AWG) 0.0509 to 2.08 (mm^2); Working Voltage: 300V (AC); Manufacturer Part Number: 691241710010; Product Series: WR-TBL; ComponentLink1Description: Website Link; ComponentLink1URL: https://www.we-online.com; ComponentLink2Description: Datasheet Link; ComponentLink2URL: https://www.we-online.com/components/products/datasheet/691241710010; Mount: Through Hole; Operating Temperature Min: -30degC; Operating Temperature Max: 120degC; Packaging: Box; Application: Rising Cage Clamp; Number of Pins: 10; Number of Rows: 1; Orientation: Horizontal; Lead Pitch: 5mm
footprint 691241710010
pins: 1, 2, 3, 4, 5, 6, 7, 8, 9, 10

## 691241800003
designator J?  (value not drawn)
WR-TBL Series 2418 Vertical Entry, THT, pitch 10mm, 03p; Manufacturer: Wurth Elektronik; Modularity: No; Rated Current: 14A; Wire Section: 14 to 30 (AWG) 2.08 to 0.0509 (mm^2); Working Voltage: 300V (AC); Manufacturer Part Number: 691241800003; Product Series: WR-TBL; ComponentLink1Description: Website Link; ComponentLink1URL: https://www.we-online.com; ComponentLink2Description: Datasheet Link; ComponentLink2URL: https://www.we-online.com/components/products/datasheet/691241800003; Mount: Through Hole; Operating Temperature Min: -30degC; Operating Temperature Max: 120degC; Packaging: Box; Application: Rising Cage Clamp; Number of Pins: 3; Number of Rows: 1; Orientation: Vertical; Lead Pitch: 10mm
footprint 691241800003
pins: 1, 2, 3

## 691241800004
designator J?  (value not drawn)
WR-TBL Series 2418 Vertical Entry, THT, pitch 10mm, 04p; Manufacturer: Wurth Elektronik; Modularity: No; Rated Current: 14A; Wire Section: 14 to 30 (AWG) 2.08 to 0.0509 (mm^2); Working Voltage: 300V (AC); Manufacturer Part Number: 691241800004; Product Series: WR-TBL; ComponentLink1Description: Website Link; ComponentLink1URL: https://www.we-online.com; ComponentLink2Description: Datasheet Link; ComponentLink2URL: https://www.we-online.com/components/products/datasheet/691241800004; Mount: Through Hole; Operating Temperature Min: -30degC; Operating Temperature Max: 120degC; Packaging: Box; Application: Rising Cage Clamp; Number of Pins: 4; Number of Rows: 1; Orientation: Vertical; Lead Pitch: 10mm
footprint 691241800004
pins: 1, 2, 3, 4

## 691241800005
designator J?  (value not drawn)
WR-TBL Series 2418 Vertical Entry, THT, pitch 10mm, 05p; Manufacturer: Wurth Elektronik; Modularity: No; Rated Current: 14A; Wire Section: 14 to 30 (AWG) 2.08 to 0.0509 (mm^2); Working Voltage: 300V (AC); Manufacturer Part Number: 691241800005; Product Series: WR-TBL; ComponentLink1Description: Website Link; ComponentLink1URL: https://www.we-online.com; ComponentLink2Description: Datasheet Link; ComponentLink2URL: https://www.we-online.com/components/products/datasheet/691241800005; Mount: Through Hole; Operating Temperature Min: -30degC; Operating Temperature Max: 120degC; Packaging: Box; Application: Rising Cage Clamp; Number of Pins: 5; Number of Rows: 1; Orientation: Vertical; Lead Pitch: 10mm
footprint 691241800005
pins: 1, 2, 3, 4, 5